# Altium footprint library MY_PCB_Lib.PcbLib: 310 footprints (part 10 of 20)
Each footprint in its own frame and in the unit in brackets; x right, y up, seen from the top. Pads: shape width x height; smd on the part's side, far side on the other; paste and mask are expansions set on the pad; w line width, h text height; cw(c..) or ccw(c..) is an arc to the next point about the centre after c.
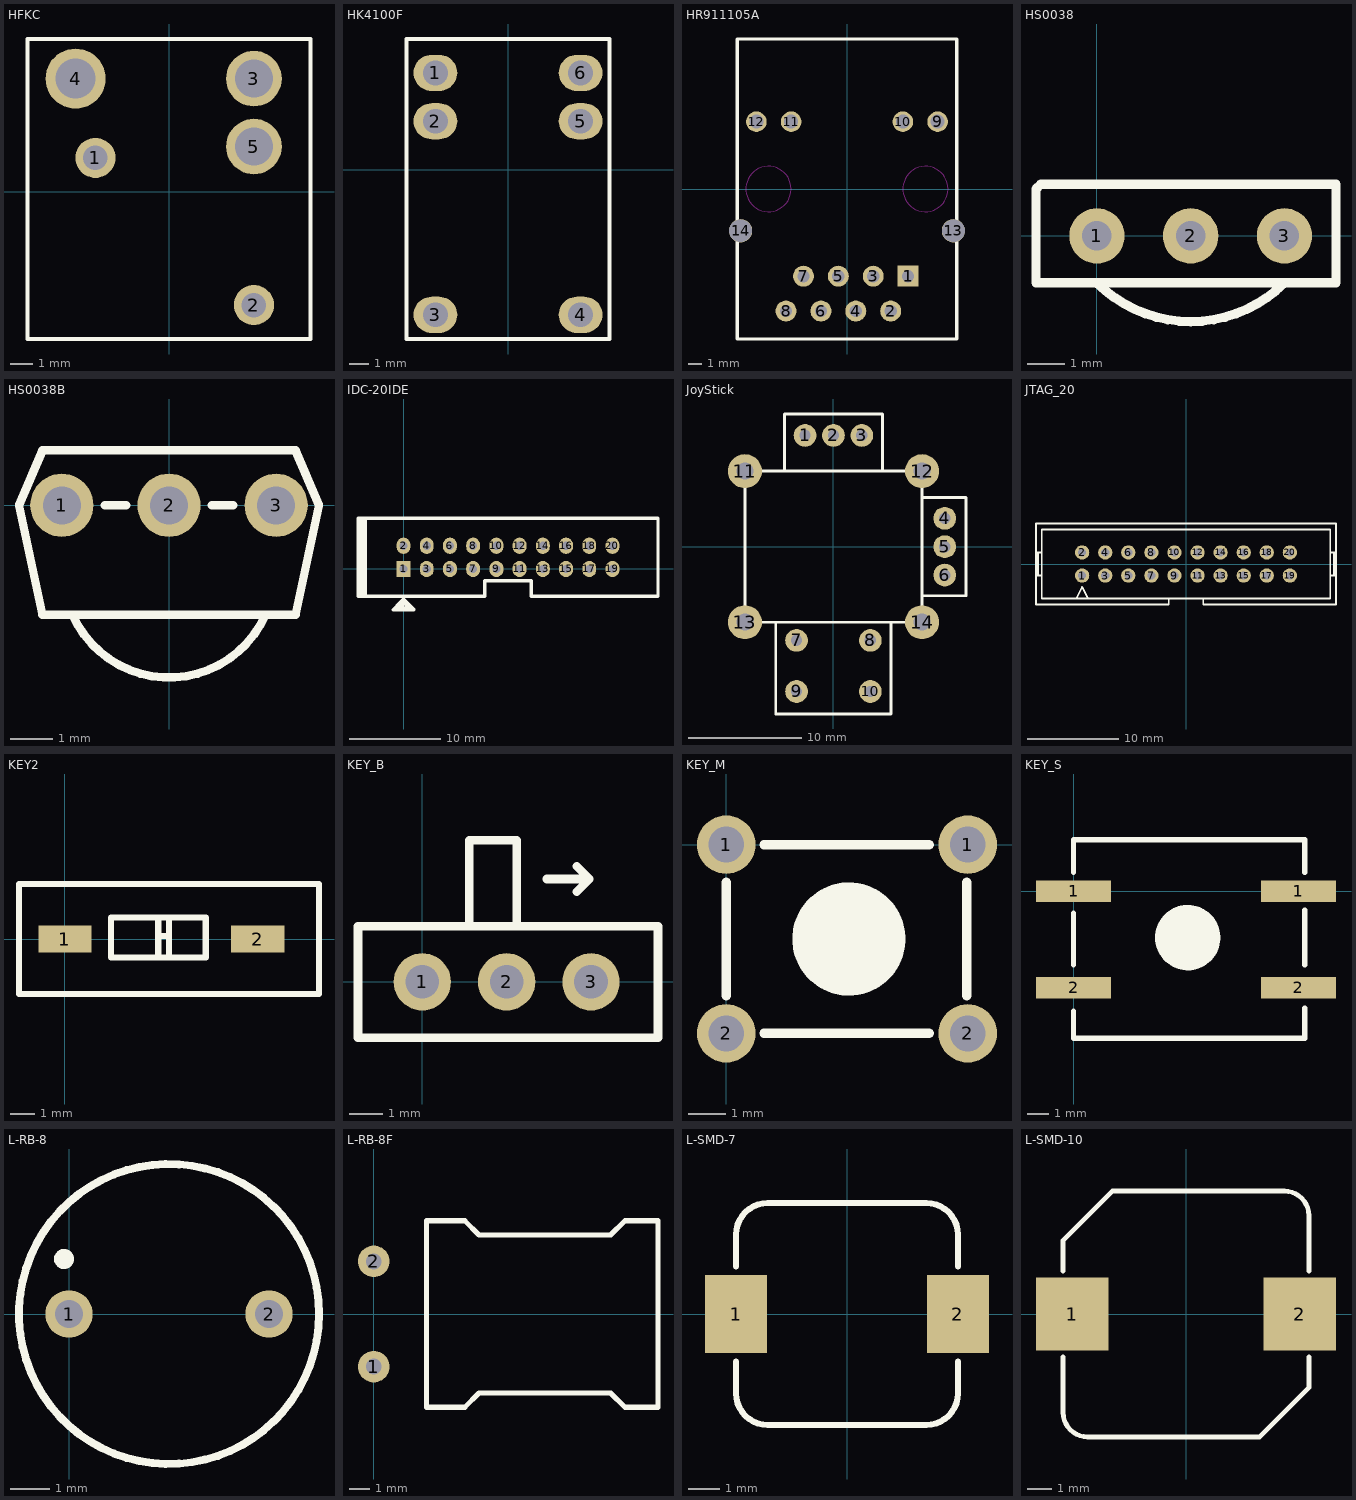
[diagram p9: the footprints below, top view; thin cyan lines are the x and y axes]

## HFKC [mm] "继电器"
height 11.8
pads (5):
  round 1.8 hole 1.1: 1(-3.302,1.524) 2(3.81,-5.08)
  round 2.5 hole 1.7: 3(3.81,5.08) 5(3.81,2.032)
  round 2.7 hole 1.8: 4(-4.191,5.08)
Top Overlay:
  lines w0.2: -6.35,-6.604 -6.35,6.858 6.35,6.858 6.35,-6.604 -6.35,-6.604

## HK4100F [mm] "继?"
height 11.8
pads (6):
  oval 2.3x1.9 hole 1.3: 1(-3.81,5.08) 2(-3.81,2.54) 3(-3.81,-7.62) 4(3.81,-7.62) 5(3.81,2.54) 6(3.81,5.08)
Top Overlay:
  lines w0.2: -5.334,-8.89 -5.334,6.858 5.334,6.858 5.334,-8.89 -5.334,-8.89
3D body: height 12, standoff 0, extent -5.334,-8.89 5.334,6.858

## HR911105A [mm]
pads (14):
  rect 1.524x1.524 hole 0.889: 1(4.45,-6.35)
  round 1.524 hole 0.889: 2(3.18,-8.89) 3(1.91,-6.35) 4(0.64,-8.89) 5(-0.63,-6.35) 6(-1.9,-8.89) 7(-3.17,-6.35) 8(-4.44,-8.89)
  round 1.5 hole 1.02: 9(6.6,4.9) 10(4.064,4.9) 11(-4.064,4.9) 12(-6.6,4.9)
  round 1.7 hole 1.65: 13(7.75,-3.048) 14(-7.75,-3.048)
Top Overlay:
  lines w0.254: -8,-10.922 -8,10.922 0,10.922 8,10.922 8,-10.922 0,-10.922 -8,-10.922
Keep-Out Layer:
  circle w0.051: c5.716,0 r1.65
  circle w0.051: c-5.714,0 r1.65

## HS0038 [mm]
pads (3):
  round 1.5 hole 0.8: 1(0,0) 2(2.54,0) 3(5.08,0)
Top Overlay:
  lines w0.254: 0,-1.27 ccw(c2.54,1.27) 5.08,-1.27 ; -1.651,-1.27 -1.651,1.27 -1.524,1.397 6.477,1.397 6.477,-1.27 -1.651,-1.27

## HS0038B [mm] "红外接收头"
height 6.95
pads (3):
  round 1.5 hole 0.9: 1(-2.54,0) 2(0,0) 3(2.54,0)
Top Overlay:
  lines w0.2: -2.285,-2.599 ccw(c0,-1.584) 2.285,-2.599 ; -1.524,0 -1.016,0 ; 1.016,0 1.524,0 ; -3.556,0 -3,-2.6 3,-2.6 3.556,0 3,1.3 -3,1.3 -3.556,0

## IDC-20IDE [mil]
pads (20):
  rect 60x70 hole 35: 1(-0.4,-0.44)
  oval 60x70 hole 35: 2(-0.4,99.56) 3(99.6,-0.44) 4(99.6,99.56) 5(199.6,-0.44) 6(199.6,99.56) 7(299.6,-0.44) 8(299.6,99.56) 9(399.6,-0.44) 10(399.6,99.56) 11(499.6,-0.44) 12(499.6,99.56) 13(599.6,-0.44) 14(599.6,99.56) 15(699.6,-0.44) 16(699.6,99.56) 17(799.6,-0.44) 18(799.6,99.56) 19(899.6,-0.44) 20(899.6,99.56)
Top Overlay:
  lines w8: 349.6,-118.44 349.6,-50.44 ; 549.6,-118.44 549.6,-50.44
  lines w15: -185.4,-118.44 -185.4,217.56 ; -175.4,-118.44 -175.4,217.56 ; -165.4,-118.44 -165.4,217.56 ; -34.64,-164.68 -31.16,-164.68 -20.4,-175.44 ; -27.54,-157.58 -23.25,-157.58 -5.4,-175.44 ; -16.81,-146.85 -16.81,-149.02 9.6,-175.44 ; -9.72,-139.76 -6.07,-139.76 29.6,-175.44 ; -196.4,-118.44 349.6,-118.44 349.6,-50.44 549.6,-50.44 549.6,-118.44 1095.6,-118.44 1095.6,217.56 -196.4,217.56 -196.4,-118.44 ; -45.4,-175.44 44.6,-175.44 -0.4,-130.44 -45.4,-175.44

## JoyStick [mm] "ģ?"
height 20
pads (14):
  round 2 hole 1: 1(-2.5,9.8) 2(0,9.8) 3(2.5,9.8) 4(9.8,2.5) 5(9.8,0) 6(9.8,-2.5) 7(-3.25,-8.25) 8(3.25,-8.25) 9(-3.25,-12.75) 10(3.25,-12.75)
  round 3 hole 1.5: 11(-7.8,6.65) 12(7.8,6.65) 13(-7.8,-6.65) 14(7.8,-6.65)
Top Overlay:
  lines w0.254: -5.08,-6.65 -5.08,-14.732 5.08,-14.732 5.08,-6.65 ; -4.318,6.65 -4.318,11.684 4.318,11.684 4.318,6.65 ; 7.8,-4.318 11.684,-4.318 11.684,4.318 7.8,4.318 ; -7.8,-6.65 -7.8,6.65 7.8,6.65 7.8,-6.65 -7.8,-6.65

## JTAG_20 [mil]
pads (20):
  round 62 hole 35: 1(-450,-50) 2(-450,50) 3(-350,-50) 4(-350,50) 5(-250,-50) 6(-250,50) 7(-150,-50) 8(-150,50) 9(-50,-50) 10(-50,50) 11(50,-50) 12(50,50) 13(150,-50) 14(150,50) 15(250,-50) 16(250,50) 17(350,-50) 18(350,50) 19(450,-50) 20(450,50)
Top Overlay:
  lines w8: -650,-50 -625,-50 ; -650,50 -625,50 ; -641.67,-50 -641.67,50 ; -475,-150 -450,-100 -425,-150 ; -339.57,-175 -75,-175 -75,-150 ; -325,-175 -650,-175 -650,175 650,175 650,-175 325,-175 75,-175 75,-150 ; 625,-50 650,-50 ; 625,50 650,50 ; 641.67,-50 641.67,50 ; -75,-150 75,-150 ; -75,-150 -625,-150 -625,150 625,150 625,-150 75,-150

## KEY2 [mm]
pads (2):
  rect 2.2x1.1 smd: 1(0,0) 2(8,0)
Top Overlay:
  lines w0.254: 3.873,-0.762 3.873,0.889 ; 3.873,0.127 4.191,0.127 ; 4.318,-0.762 4.318,0.762 ; -1.905,-2.286 10.541,-2.286 10.541,2.286 -1.905,2.286 -1.905,-2.286 ; 1.905,-0.762 5.842,-0.762 5.842,0.889 1.905,0.889 1.905,-0.762

## KEY_B [mm]
pads (3):
  round 1.7 hole 1: 1(0,0) 2(2.5,0) 3(5,0)
Top Overlay:
  lines w0.254: 1.397,1.778 1.397,4.191 2.794,4.191 2.794,1.651 ; 3.683,3.048 4.953,3.048 ; 4.572,2.667 4.953,3.048 ; 4.953,3.048 4.572,3.429 4.953,3.048 ; -1.905,-1.651 -1.905,1.27 -1.905,1.651 6.985,1.651 6.985,-1.651 -1.905,-1.651

## KEY_M [mil]
pads (4):
  round 62 hole 38: 1(0,0) 1(255.91,0) 2(0,-200) 2(255.91,-200)
Top Overlay:
  circle w60: c130,-100 r30
  lines w10: -0.03,-160 -0.03,-40 ; 39.97,-200 215,-200 ; 39.97,0 215,0 ; 255,-160 255,-40

## KEY_S [mm]
pads (4):
  rect 3.5x1 smd: 1(0,0) 1(10.5,0) 2(0,-4.5) 2(10.5,-4.5)
Top Overlay:
  circle w1.524: c5.334,-2.159 r0.762
  lines w0.254: 0,-5.588 0,-6.858 10.795,-6.858 10.795,-5.461 ; 0,-3.429 0,-1.016 ; 0,0.889 0,1.524 0,2.413 10.795,2.413 10.795,0.889 ; 10.795,-3.429 10.795,-0.889

## L-RB-8 [mm] "Inductor"
pads (2):
  round 1.2 hole 0.7: 1(0,0) 2(5.08,0)
Top Overlay:
  circle w0.254: c-0.127,1.397 r0.127
  circle w0.2: c2.54,0 r3.81

## L-RB-8F [mil] "ֱ?"
height 472.44
pads (2):
  round 60 hole 30: 1(0,-100) 2(0,100)
Top Overlay:
  lines w10: 100,-177.17 172.83,-177.17 200,-150 450,-150 477.17,-177.17 540,-177.17 540,177.17 477.17,177.17 450,150 200,150 172.83,177.17 100,177.17 100,-177.17

## L-SMD-7 [mm] "贴片电感7*7"
pads (2):
  rect 2x2.5 smd: 1(-3.556,0) 2(3.556,0)
Top Overlay:
  lines w0.2: -3.556,-1.524 -3.556,-2.54 ccw(c-2.54,-2.54) -2.54,-3.556 2.54,-3.556 ccw(c2.54,-2.54) 3.556,-2.54 3.556,-1.524 ; -3.556,1.524 -3.556,2.54 cw(c-2.54,2.54) -2.54,3.556 2.54,3.556 cw(c2.54,2.54) 3.556,2.54 3.556,1.524
3D body: height 4, standoff 0, extent -3.556,-3.556 3.556,3.556

## L-SMD-10 [mm] "贴片电感10*10"
pads (2):
  rect 3x3 smd: 1(-4.699,0) 2(4.699,0)
Top Overlay:
  lines w0.2: -5.08,-1.778 -5.08,-4.064 ccw(c-4.064,-4.064) -4.064,-5.08 3.048,-5.08 5.08,-3.048 5.08,-1.778 ; -5.08,1.778 -5.08,3.048 -3.048,5.08 4.064,5.08 cw(c4.064,4.064) 5.08,4.064 5.08,1.778
3D body: height 4, standoff 0, extent -5.08,-5.08 5.08,5.08